# Altium schematic symbol library vtg regulator using TPS793.SchLib: 9 symbols
Pins are listed as number, name and electrical type; pins without a type are passive.

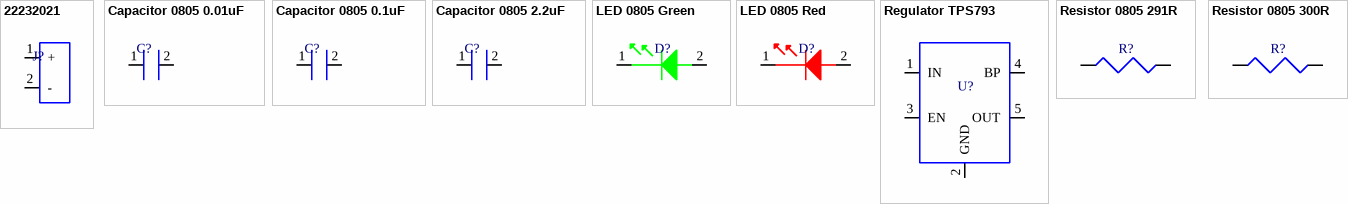
[diagram p0: symbols 22232021 to Resistor 0805 300R]

## 22232021
designator J?, comment Generic Header, 1X2 Vertical  (value not drawn)
Manufacturer: Molex; Part No: 22232021; Description: KK 254 Solid Header, Vertical, with friction Lock, 2 circuits, Tin(Sn) Plating; Series NO: 6373; Product Name: KK254; Current max per contact: 4A; Voltage max: 500V; Pitch: 2.54mm; Product Category: PCB Headers and Receptacles; Component Type: PCB Header
pins: 1 +, 2 -

## Capacitor 0805 0.01uF
designator C?  (value not drawn)
Manufacturer: Vishay; Part No: VJ0805Y103KXAAC; Capacitance: 0.01uF; Voltage Rating: 50VDC; Dielectric: X7R; Package: 0805; Product Type: Ceramic Capacitors
pins: 1, 2

## Capacitor 0805 0.1uF
designator C?  (value not drawn)
Manufacturer: Vishay; Part No: VJ0805Y104KXAAT; Capacitance: 0.1uF; Voltage Rating: 50VDC; Dielectric: X7R; Package: 0805; Product Type: Ceramic Capacitor
pins: 1, 2

## Capacitor 0805 2.2uF
designator C?  (value not drawn)
Manufacturer: Vishay; Part No: VJ0805V225MXQTW1BC; Capacitance: 2.2uF; Voltage Rating: 10VDC; Dielectric: Y5V; Product Type: Ceramic Capacitor; Package: 0805
pins: 1, 2

## LED 0805 Green
designator D?  (value not drawn)
Manufacturer: Lite-On Inc; Part No: LTST-C171GKT; Colour: Green; Forward Voltage Vf: 2.1V; Test Current: 20mA; Pacakage: 0805
pins: 1, 2

## LED 0805 Red
designator D?  (value not drawn)
Manufacturer: Lite-On Inc; Part No: LTST-C171KRKT; Colour: Red; Forward Voltage Vf: 2V; Current Test: 20mA; Package: 0805
pins: 1, 2

## Regulator TPS793
designator U?  (value not drawn)
Manufacturer: Texas Instrument; Part No: TPS79333DBVRQ1; Output Configuration: Positive; Output Type: Fixed; Vtg Input: 5.5V; Vtg Output: 3.3V; Current Output: 200mA; Package: SOT-23-5
pins: 1 IN, 2 GND, 3 EN, 4 BP, 5 OUT

## Resistor 0805 291R
designator R?  (value not drawn)
Manufacturer: KOA Speer Electronics Inc; Part No: (RN73R2ATTD2910B25); Serier: RN73R; Resistance: 291R; Tolerance: 0.1%; Package: 0805
pins: 1, 2

## Resistor 0805 300R
designator R?  (value not drawn)
Manufacturer: YAGEO; Part No: RC0805JR-07300RL; Resistance: 300R; Series: RC_L; Package: 0805
pins: 1, 2